# Altium footprint library Blutooth_module.PcbLib: 1 footprints
Each footprint in its own frame and in the unit in brackets; x right, y up, seen from the top. Pads: shape width x height; smd on the part's side, far side on the other; paste and mask are expansions set on the pad; w line width, h text height; cw(c..) or ccw(c..) is an arc to the next point about the centre after c.
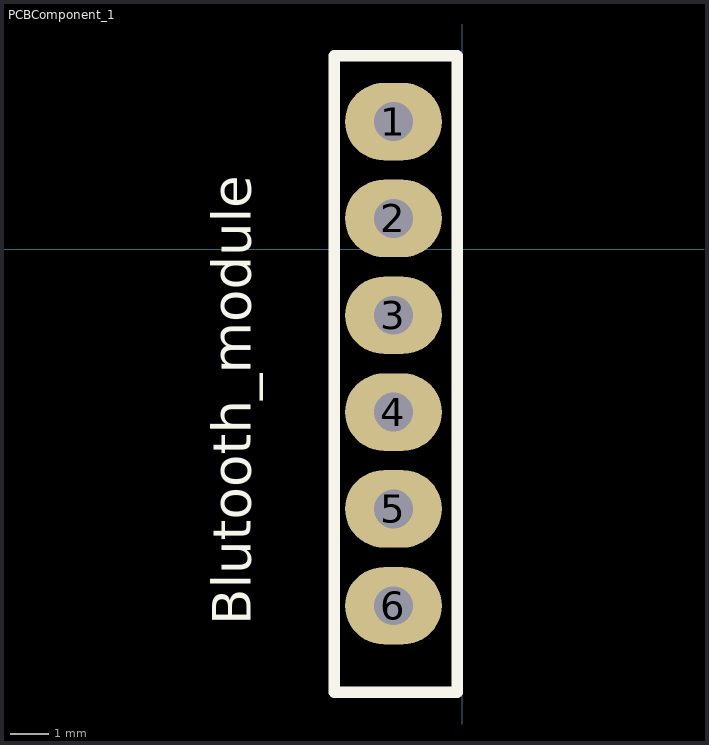
[diagram p0: the footprint, top view; thin cyan lines are the x and y axes]

## PCBComponent_1 [mm]
pads (6):
  oval 2.5x2 hole 1: 1(-1.778,3.302) 2(-1.778,0.802) 3(-1.778,-1.698) 4(-1.778,-4.198) 5(-1.778,-6.698) 6(-1.778,-9.198)
Top Overlay:
  lines w0.3: -3.302,-11.43 -0.127,-11.43 -0.127,5 -3.302,5 -3.302,-11.43
  text "Blutooth_module" at -5.467,-9.7 h1